# Altium footprint library 网络插座.PcbLib: 4 footprints
Each footprint in its own frame and in the unit in brackets; x right, y up, seen from the top. Pads: shape width x height; smd on the part's side, far side on the other; paste and mask are expansions set on the pad; w line width, h text height; cw(c..) or ccw(c..) is an arc to the next point about the centre after c.
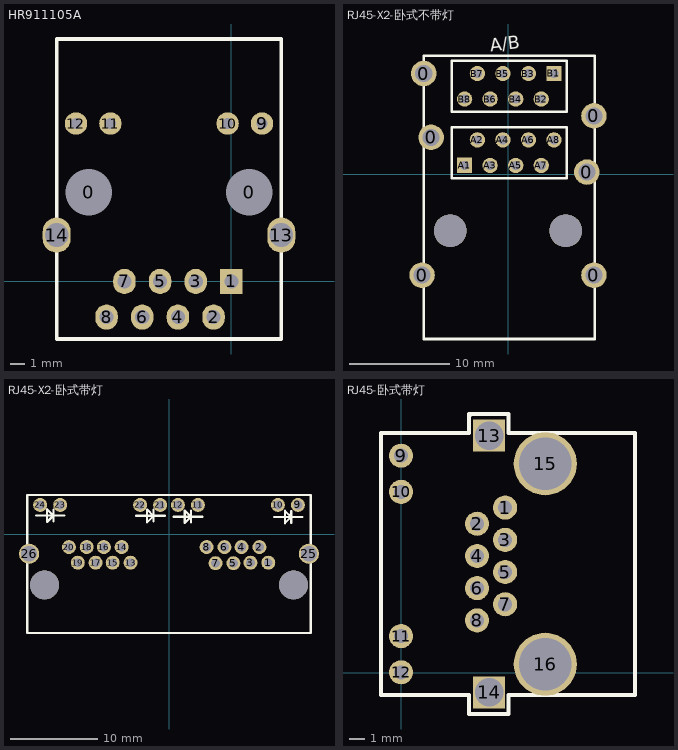
[diagram p0: the footprints below, top view; thin cyan lines are the x and y axes]

## HR911105A [mm]
pads (16):
  round 3.2 hole 3.3: 0(-10.16,6.35) 0(1.27,6.35)
  rect 1.6x1.8 hole 1: 1(0,0)
  oval 1.6x1.8 hole 1: 2(-1.27,-2.54) 3(-2.54,0) 4(-3.81,-2.54) 5(-5.08,0) 6(-6.35,-2.54) 7(-7.62,0) 8(-8.89,-2.54)
  round 1.6 hole 0.8: 9(2.18,11.25) 10(-0.27,11.25) 11(-8.62,11.25) 12(-11.07,11.25)
  oval 2x2.5 hole 1.7: 13(3.555,3.3) 14(-12.445,3.3)
Top Overlay:
  lines w0.254: 3.555,14.4 3.555,-4.1 ; -12.445,-4.1 -12.445,17.27 ; -12.445,-4.1 -12.445,14.4 -12.445,17.27 ; -12.445,-4.1 3.555,-4.1 ; -12.445,17.27 3.555,17.27 3.555,-4.1
3D body: height 2.53, standoff -13.97, extent -12.324,-4.223 3.556,17.177

## RJ45-X2-卧式不带灯 [mil]
pads (24):
  round 100 hole 66.93: 0(-336.6,-395.06) 0(-330,394.94) 0(-301.2,144.94) 0(309,8.84) 0(336.6,-395.06) 0(336.6,228.94)
  rect 60x60 hole 36: A1(-170.04,35.06) B1(179.96,395.06)
  round 60 hole 36: A2(-120,134.94) A3(-70,34.94) A4(-20,134.94) A5(30,34.94) A6(80,134.94) A7(130,34.94) A8(180,134.94) B2(130,294.94) B3(80,394.94) B4(30,294.94) B5(-20,394.94) B6(-70,294.94) B7(-120,394.94) B8(-170,294.94)
  round 127.95 hole 127.95 unplated: ""(-226.4,-221.06) ""(226.3,-221.06)
Top Overlay:
  lines w10: -330.04,-644.94 -330.04,465.06 339.96,465.06 339.96,-644.94 -330.04,-644.94 ; -220.04,-14.94 -220.04,185.06 229.96,185.06 229.96,-14.94 -220.04,-14.94 ; -220.04,245.06 -220.04,445.06 229.96,445.06 229.96,245.06 -220.04,245.06
  text "A/B" at -66.95,480.13 h50

## RJ45-X2-卧式带灯 [mm]
pads (28):
  round 1.6 hole 1: 1(11.354,-3.272) 2(10.335,-1.491) 3(9.314,-3.272) 4(8.296,-1.491) 5(7.361,-3.332) 6(6.34,-1.491) 7(5.321,-3.332) 8(4.303,-1.491) 9(14.74,3.327) 10(12.451,3.33) 11(3.31,3.332) 12(1.021,3.332) 13(-4.394,-3.272) 14(-5.413,-1.491) 15(-6.434,-3.272) 16(-7.452,-1.491) 17(-8.387,-3.272) 18(-9.408,-1.491) 19(-10.427,-3.272) 20(-11.445,-1.491) 21(-1.008,3.327) 22(-3.297,3.327) 23(-12.438,3.327) 24(-14.727,3.327)
  round 2.3 hole 1.8: 25(15.999,-2.25) 26(-15.999,-2.25)
  round 3.3 hole 3.3 unplated: ""(-14.219,-5.812) ""(14.229,-5.812)
Top Overlay:
  lines w0.254: -16.2,-11.322 16.2,-11.322 16.2,4.479 -16.2,4.479 ; -16.2,-11.32 -16.2,4.48 ; -15.201,2.119 -11.95,2.119 ; -13.245,2.068 -13.27,2.068 -13.956,1.383 -13.956,2.83 -13.245,2.119 ; -13.22,1.459 -13.22,2.805 ; -3.745,2.094 -0.494,2.094 ; -1.79,2.043 -1.815,2.043 -2.501,1.357 -2.501,2.805 -1.79,2.094 ; -1.764,1.433 -1.764,2.78 ; 0.547,1.992 3.798,1.992 ; 2.503,1.941 2.478,1.941 1.792,1.256 1.792,2.703 2.503,1.992 ; 2.528,1.332 2.528,2.678 ; 12.003,1.967 15.254,1.967 ; 13.958,1.916 13.933,1.916 13.247,1.23 13.247,2.678 13.958,1.967 ; 13.984,1.306 13.984,2.653

## RJ45-卧式带灯 [mil]
pads (16):
  round 60 hole 35.04: 1(259.33,411.55) 2(189.25,371.39) 3(259.33,331.24) 4(189.25,291.08) 5(259.33,250.92) 6(189.25,210.76) 7(259.33,170.61) 8(189.25,130.45) 9(-0.12,541.08) 10(-0.12,450.92) 11(-0.12,91.08) 12(-0.12,0.92)
  rect 80x80 hole 70.87: 13(219.17,591.08) 14(219.17,-49.08)
  round 157.48 hole 129.92: 15(359.33,521) 16(359.33,21)
Top Overlay:
  lines w10: 169.57,639.68 169.88,640 ; 269.25,-56 269.48,-55.77 ; -50.12,-55.77 -50.12,597.77 169.57,597.77 169.57,645.02 267.99,645.02 267.99,597.77 582.95,597.77 582.95,-55.77 267.99,-55.77 267.99,-103.02 169.57,-103.02 169.57,-55.77 -50.12,-55.77
3D body: height 146.61, standoff -540, extent -42.91,-49 577.88,591.16